# EAGLE library part FLASHING_CON (library Deegou_Connector)
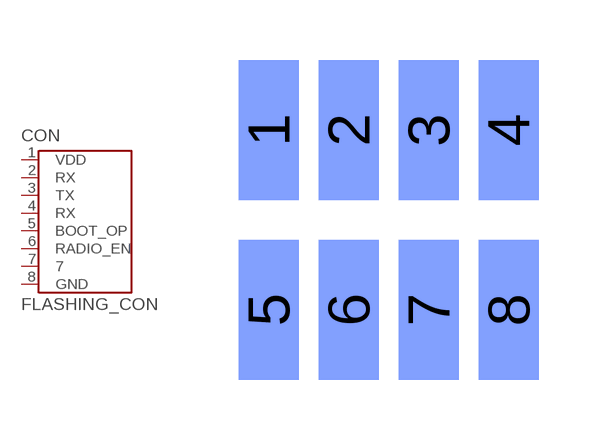
[diagram p52: symbol with the pads of FLASHING_CON; footprint FLASHING_CON]

Designator prefix CON

## FLASHING_CON  [FLASHING_CON]
1  VDD
2  RX
3  TX
4  RX
5  BOOT_OP
6  RADIO_EN
7  7
8  GND

## Footprint FLASHING_CON (pad centres in mm)
smd 1.5 x 3.5 bottom: 1 0.8,1.8; 2 2.8,1.8; 3 4.8,1.8; 4 6.8,1.8; 5 0.8,-2.7; 6 2.8,-2.7; 7 4.8,-2.7; 8 6.8,-2.7